# EAGLE library part XMEGA-A3 (library geoffculp)
Atmel's 8/16-bit AVR XMEGA A3 Microcontroller - ATxmega256A3, etc.
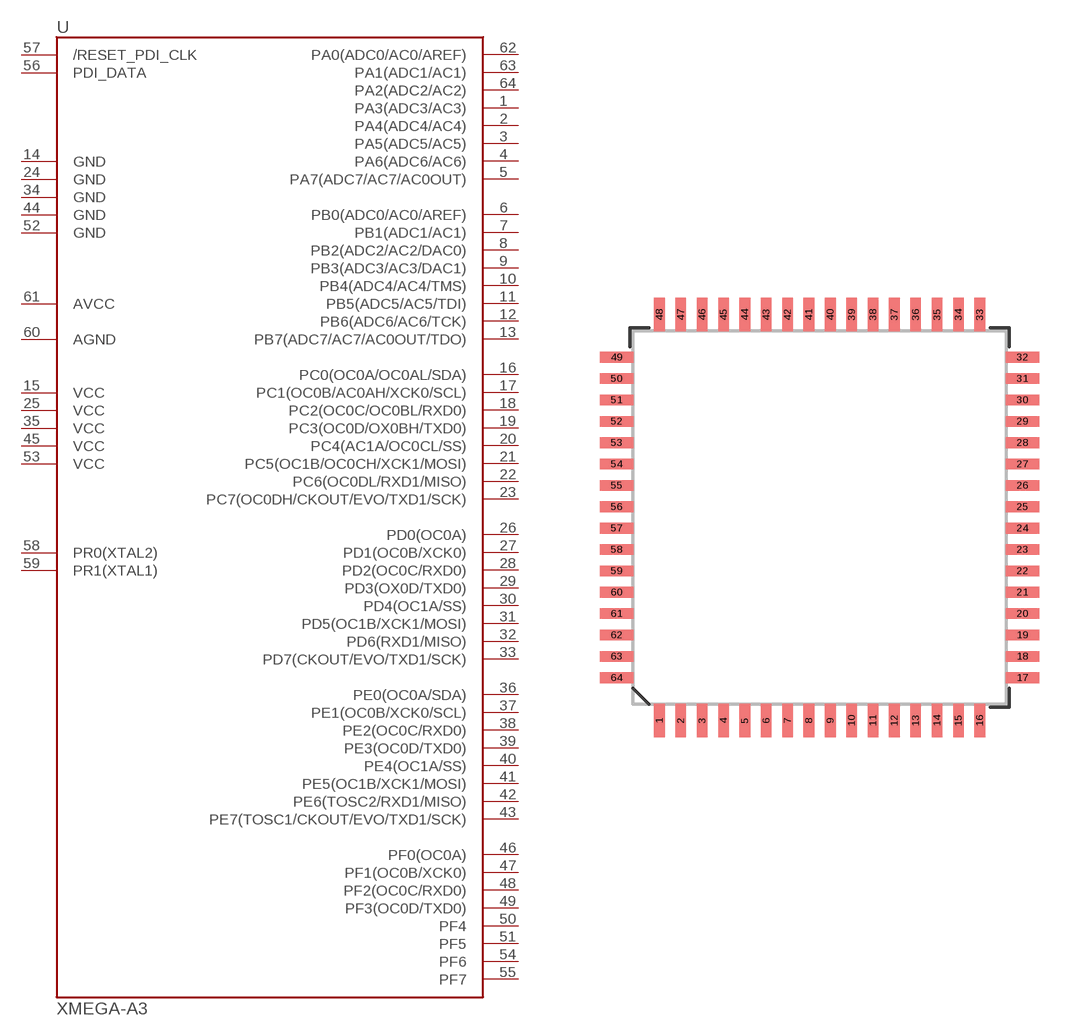
[diagram p302: symbol with the pads of TQFP64_14X14MM; footprint TQFP64_14X14MM]

Designator prefix -

## XMEGA-A3-AU  [TQFP64_14X14MM]
1  PA3(ADC3/AC3)
2  PA4(ADC4/AC4)
3  PA5(ADC5/AC5)
4  PA6(ADC6/AC6)
5  PA7(ADC7/AC7/AC0OUT)
6  PB0(ADC0/AC0/AREF)
7  PB1(ADC1/AC1)
8  PB2(ADC2/AC2/DAC0)
9  PB3(ADC3/AC3/DAC1)
10  PB4(ADC4/AC4/TMS)
11  PB5(ADC5/AC5/TDI)
12  PB6(ADC6/AC6/TCK)
13  PB7(ADC7/AC7/AC0OUT/TDO)
14  GND1
15  VCC1
16  PC0(OC0A/OC0AL/SDA)
17  PC1(OC0B/AC0AH/XCK0/SCL)
18  PC2(OC0C/OC0BL/RXD0)
19  PC3(OC0D/OX0BH/TXD0)
20  PC4(AC1A/OC0CL/SS)
21  PC5(OC1B/OC0CH/XCK1/MOSI)
22  PC6(OC0DL/RXD1/MISO)
23  PC7(OC0DH/CKOUT/EVO/TXD1/SCK)
24  GND2
25  VCC2
26  PD0(OC0A)
27  PD1(OC0B/XCK0)
28  PD2(OC0C/RXD0)
29  PD3(OX0D/TXD0)
30  PD4(OC1A/SS)
31  PD5(OC1B/XCK1/MOSI)
32  PD6(RXD1/MISO)
33  PD7(CKOUT/EVO/TXD1/SCK)
34  GND3
35  VCC3
36  PE0(OC0A/SDA)
37  PE1(OC0B/XCK0/SCL)
38  PE2(OC0C/RXD0)
39  PE3(OC0D/TXD0)
40  PE4(OC1A/SS)
41  PE5(OC1B/XCK1/MOSI)
42  PE6(TOSC2/RXD1/MISO)
43  PE7(TOSC1/CKOUT/EVO/TXD1/SCK)
44  GND4
45  VCC4
46  PF0(OC0A)
47  PF1(OC0B/XCK0)
48  PF2(OC0C/RXD0)
49  PF3(OC0D/TXD0)
50  PF4
51  PF5
52  GND5
53  VCC5
54  PF6
55  PF7
56  PDI_DATA
57  /RESET_PDI_CLK
58  PR0(XTAL2)
59  PR1(XTAL1)
60  AGND
61  AVCC
62  PA0(ADC0/AC0/AREF)
63  PA1(ADC1/AC1)
64  PA2(ADC2/AC2)

## Footprint TQFP64_14X14MM (pad centres in mm)
64-Lead TQFP Plastic Thin Quad Flatpack - 14x14x1mm Body
smd 0.4 x 1.27: 1 -6,-7.6; 2 -5.2,-7.6; 3 -4.4,-7.6; 4 -3.6,-7.6; 5 -2.8,-7.6; 6 -2,-7.6; 7 -1.2,-7.6; 8 -0.4,-7.6; 9 0.4,-7.6; 10 1.2,-7.6; 11 2,-7.6; 12 2.8,-7.6; 13 3.6,-7.6; 14 4.4,-7.6; 15 5.2,-7.6; 16 6,-7.6; 33 6,7.6; 34 5.2,7.6; 35 4.4,7.6; 36 3.6,7.6; 37 2.8,7.6; 38 2,7.6; 39 1.2,7.6; 40 0.4,7.6; 41 -0.4,7.6; 42 -1.2,7.6; 43 -2,7.6; 44 -2.8,7.6; 45 -3.6,7.6; 46 -4.4,7.6; 47 -5.2,7.6; 48 -6,7.6
smd 1.27 x 0.4: 17 7.6,-6; 18 7.6,-5.2; 19 7.6,-4.4; 20 7.6,-3.6; 21 7.6,-2.8; 22 7.6,-2; 23 7.6,-1.2; 24 7.6,-0.4; 25 7.6,0.4; 26 7.6,1.2; 27 7.6,2; 28 7.6,2.8; 29 7.6,3.6; 30 7.6,4.4; 31 7.6,5.2; 32 7.6,6; 49 -7.6,6; 50 -7.6,5.2; 51 -7.6,4.4; 52 -7.6,3.6; 53 -7.6,2.8; 54 -7.6,2; 55 -7.6,1.2; 56 -7.6,0.4; 57 -7.6,-0.4; 58 -7.6,-1.2; 59 -7.6,-2; 60 -7.6,-2.8; 61 -7.6,-3.6; 62 -7.6,-4.4; 63 -7.6,-5.2; 64 -7.6,-6